# EAGLE library part XBEE-WIFI (library RF)
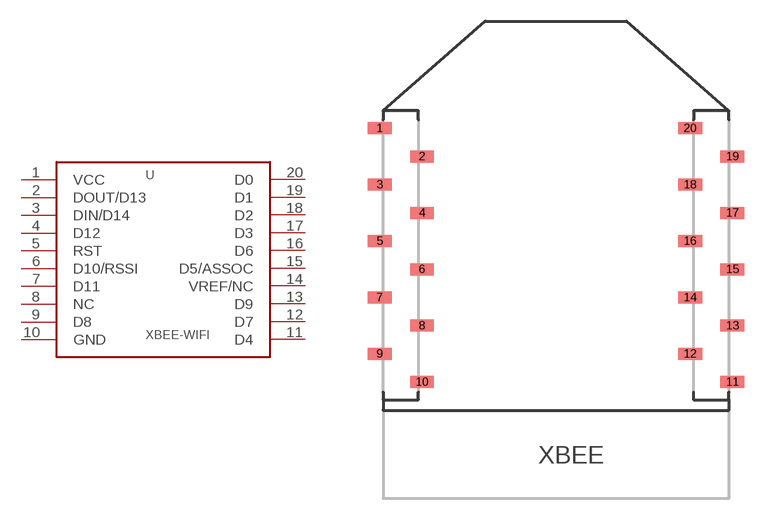
[diagram p0: symbol with the pads of XBEE-STD; footprint XBEE-STD]

Designator prefix -

## XBEE-WIFI  [XBEE-STD]
1  VCC
2  DOUT/D13
3  DIN/D14
4  D12
5  RST
6  D10/RSSI
7  D11
8  NC
9  D8
10  GND
11  D4
12  D7
13  D9
14  VREF/NC
15  D5/ASSOC
16  D6
17  D3
18  D2
19  D1
20  D0

## Footprint XBEE-STD (pad centres in mm)
smd 1.7 x 0.85: 1 -12.5,8.57; 2 -9.5,6.57; 3 -12.5,4.57; 4 -9.5,2.57; 5 -12.5,0.57; 6 -9.5,-1.43; 7 -12.5,-3.43; 8 -9.5,-5.43; 9 -12.5,-7.43; 10 -9.5,-9.43; 11 12.5,-9.43; 12 9.5,-7.43; 13 12.5,-5.43; 14 9.5,-3.43; 15 12.5,-1.43; 16 9.5,0.57; 17 12.5,2.57; 18 9.5,4.57; 19 12.5,6.57; 20 9.5,8.57